# Altium footprint library CAP_SMD_10x10_0.PcbLib: 1 footprints
Each footprint in its own frame and in the unit in brackets; x right, y up, seen from the top. Pads: shape width x height; smd on the part's side, far side on the other; paste and mask are expansions set on the pad; w line width, h text height; cw(c..) or ccw(c..) is an arc to the next point about the centre after c.
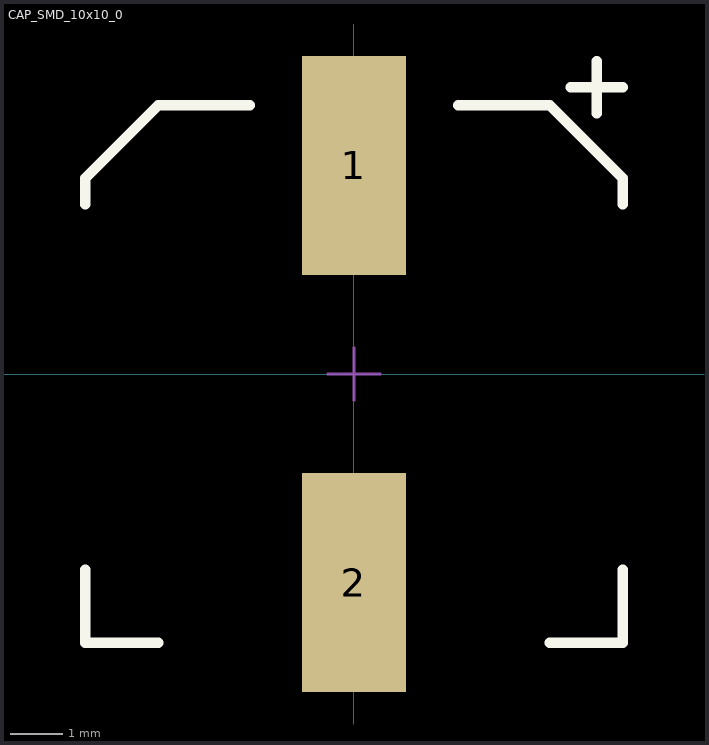
[diagram p0: the footprint, top view; thin cyan lines are the x and y axes]

## CAP_SMD_10x10_0 [mm]
pads (2):
  rect 2x4.2 smd: 1(0,4) 2(0,-4)
Top Overlay:
  lines w0.2: -5.15,-3.75 -5.15,-5.15 -3.75,-5.15 ; -5.15,3.25 -5.15,3.75 -3.75,5.15 -2,5.15 ; 2,5.15 3.75,5.15 5.15,3.75 5.15,3.25 ; 3.75,-5.15 5.15,-5.15 5.15,-3.75 ; 4.15,5.5 5.15,5.5 ; 4.65,5 4.65,6
Mechanical 15:
  lines w0.05: -0.5,0 0.5,0 ; 0,-0.5 0,0.5
3D body "CAP_SMD_10x10_0.SLDPRT": height 10, standoff 0, extent -5.15,-5.15 5.15,5.15